# Altium footprint library Cap_Yageo_CC0402KRX5R8BB224_220nF.PcbLib: 1 footprints
Each footprint in its own frame and in the unit in brackets; x right, y up, seen from the top. Pads: shape width x height; smd on the part's side, far side on the other; paste and mask are expansions set on the pad; w line width, h text height; cw(c..) or ccw(c..) is an arc to the next point about the centre after c.
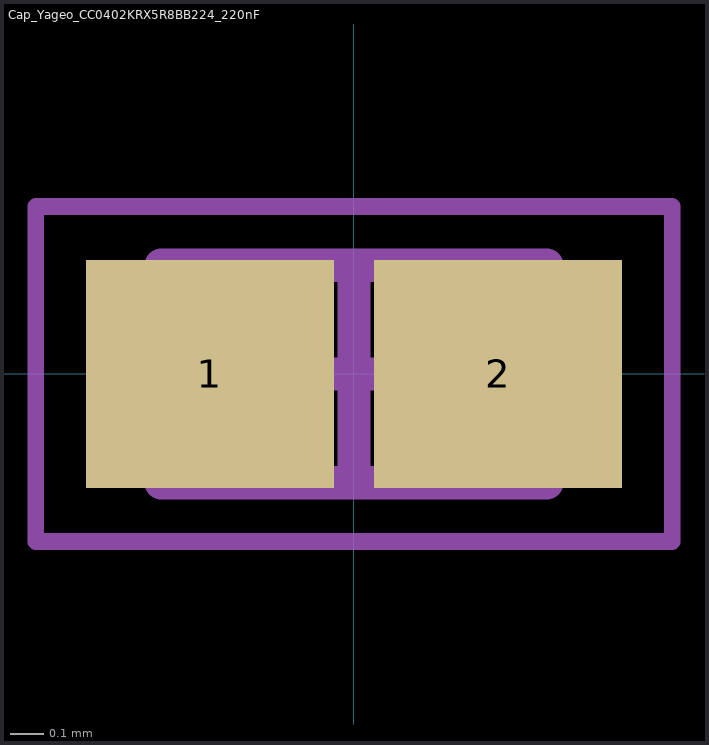
[diagram p0: the footprint, top view; thin cyan lines are the x and y axes]

## Cap_Yageo_CC0402KRX5R8BB224_220nF [mm]
height 0.65
pads (2):
  rect 0.74x0.68 smd: 1(-0.43,0) 2(0.43,0)
Mechanical 13:
  lines w0.1: -0.575,-0.325 -0.575,0.325 0.575,0.325 0.575,-0.325 -0.575,-0.325
Mechanical 15:
  lines w0.05: -0.95,-0.5 -0.95,0.5 0.95,0.5 0.95,-0.5 -0.95,-0.5
  lines w0.1: -0.325,0 0.325,0 ; 0,-0.325 0,0.325
3D body "Chip2PinSM127P600-8N.step": height 0.65, standoff 0, extent -0.575,-0.325 0.575,0.325